# Altium schematic symbol library EL.UIM.T01.SCHLIB: 14 symbols
Pins are listed as number, name and electrical type; pins without a type are passive.

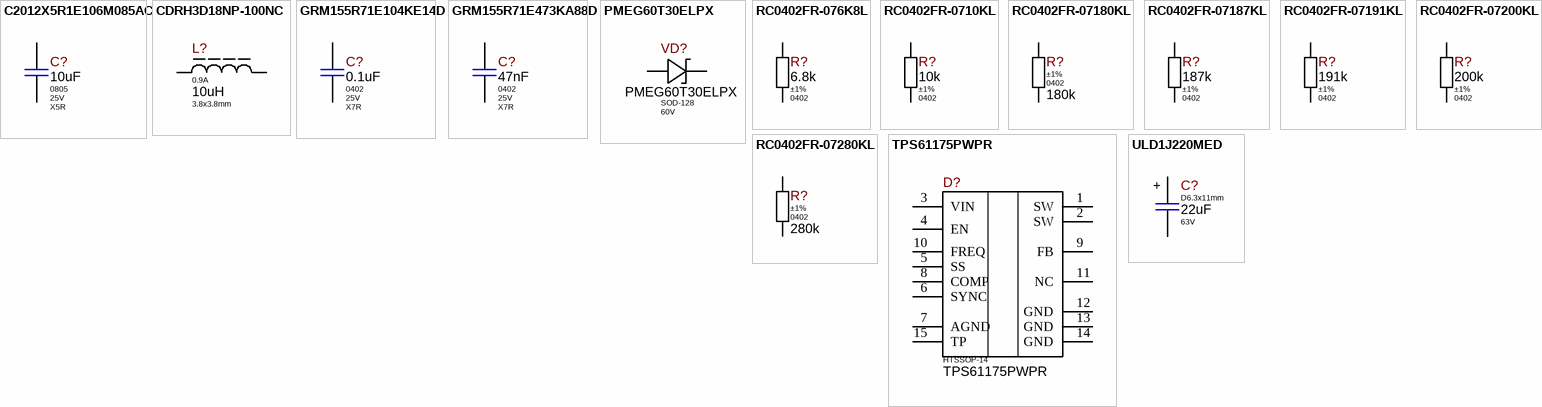
[diagram p0: symbols C2012X5R1E106M085AC to ULD1J220MED]

## C2012X5R1E106M085AC
designator C?, comment Package: 0805  Voltage: 25V  Dielectric Type: X5R  (hidden comment: 10uF)
10uF 25V X5R ±20% 0805 Ceramic Capacitor RoHS; Part Number: C2012X5R1E106M085AC; Manufacturer: TDK Corporation; Standard Lead Time: 12 Weeks; Component Status: Released; Replacement: NONE; Ajax_1С_Lifecycle: Archived; Part Type: Ceramic / X5R / 0805; Component Type: SMD; Temperature Range: -55°C ~ 85°C; Tolerance: ±20%; ComponentLink1URL: https://product.tdk.com/info/en/catalog/datasheets/mlcc_commercial_general_en.pdf; Supplier 1: Digi-Key; Supplier Part Number 1: 445-14388-1-ND; ComponentLink1Description: Datasheet; Price: 0.185; Value: 10uF
footprint CAP-0805(2012)X85T10
pins: 1, 2

## CDRH3D18NP-100NC
designator L?, comment Current: 0.9A  Package: 3.8x3.8mm  (hidden comment: 10uH)
10uH Shielded Power Inductor 900mA 205mOhm Max Nonstandard; Part Number: CDRH3D18NP-100NC; Manufacturer: Sumida; Tolerance: ±30%; Component Status: Released; Standard Lead Time: 28 Weeks; Replacement: NONE; Value: 10uH; Part Type: Power / Ferrite Core; Saturation Current: 0.9A; Component Type: SMD; Temperature Range: -40°C ~ 105°C; ComponentLink1URL: http://products.sumida.com/products/pdf/CDRH3D18.pdf; Supplier 1: Digi-Key; Supplier Part Number 1: 308-1954-6-ND; Price: 0.19; ComponentLink1Description: Datasheet
footprint CDRH3D18
footprint CDRH3D18X
pins: 1, 2

## GRM155R71E104KE14D
designator C?, comment Package: 0402  Voltage: 25V  Dielectric Type: X7R  (hidden comment: 0.1uF)
100nF 25V X7R ±10% 0402 Ceramic Capacitor RoHS; Part Number: GRM155R71E104KE14D; Manufacturer: Murata Electronics; Standard Lead Time: 15 Weeks; Component Status: Released; Replacement: NONE; Ajax_1С_Lifecycle: Archived; Value: 0.1uF; Part Type: Ceramic / X7R / 0402; Component Type: SMD; Temperature Range: -55°C ~ 125°C; Tolerance: ±10%; ComponentLink1URL: https://search.murata.co.jp/Ceramy/image/img/A01X/G101/ENG/GRM155R71E104KE14-01.pdf; Supplier 1: Digi-Key; Supplier Part Number 1: 490-10698-1-ND; Price: 0.006; ComponentLink1Description: Datasheet
footprint C_CERAMIC_0402_MED
footprint C_CERAMIC_0402_HI
pins: 1, 2

## GRM155R71E473KA88D
designator C?, comment Package: 0402  Voltage: 25V  Dielectric Type: X7R  (hidden comment: 47nF)
47nF 25V X7R ±10% 0402 Ceramic Capacitor RoHS; Part Number: GRM155R71E473KA88D; Manufacturer: Murata Electronics; Standard Lead Time: 15 Weeks; Replacement: NONE; Component Status: Released; Value: 47nF; Part Type: Ceramic / X7R / 0402; Component Type: SMD; Temperature Range: -55°C ~ 125°C; Tolerance: ±10%; ComponentLink1URL: https://search.murata.co.jp/Ceramy/image/img/A01X/G101/ENG/GRM155R71E473KA88-01.pdf; Supplier 1: Digi-Key; Supplier Part Number 1: 490-3254-2-ND; ComponentLink1Description: Datasheet; Price: 0.00133
footprint C_CERAMIC_0402_MED
footprint C_CERAMIC_0402_HI
pins: 1, 2

## PMEG60T30ELPX
designator VD?  Package: SOD-128  Voltage: 60V  (hidden comment: PMEG60T30ELPX)
Diode Schottky 60V 3A, 550mV @ 3A, 16ns Recovery Time, SOD-128; Manufacturer: Nexperia USA; Marking: E2; Component Status: Released; Standard Lead Time: 20 Weeks; Replacement: NONE; Part Number: PMEG60T30ELPX; Part Type: Schottky; Component Type: SMD; Current: 3A; Vf: 550mV @ 3A; Temperature Range: -55°C ~ 175°C; ComponentLink1URL: https://assets.nexperia.com/documents/data-sheet/PMEG60T30ELP.pdf; Supplier 1: Digi-Key; Supplier Part Number 1: 1727-7809-2-ND; Price: NONE; ComponentLink1Description: Datasheet
footprint SOD-128
pins: AN, CA

## RC0402FR-076K8L
designator R?, comment Tolerance: ±1%  Package: 0402  (hidden comment: 6.8k)
6.8k kOhms ±1%, 1/16W 0402 Thick Film Resistor; Part Number: RC0402FR-076K8L; Manufacturer: Yageo; Power Rating: 0.062W; Voltage: 50V; Temperature Stability: ±100ppm/°C; Replacement: NONE; Component Status: Released; Value: 6.8k; Component Type: SMD; Part Type: Thick Film; Temperature Range: -55°C ~ 155°C; ComponentLink1URL: https://eu.mouser.com/datasheet/2/447/PYu_RC_Group_51_RoHS_L_11-1984063.pdf; ComponentLink1Description: Datasheet; Supplier 1: Digi-Key; Supplier Part Number 1: 311-6.80KLRTR-ND; Price: 0.00078254
footprint R_ANY_CHIP_0402_MED
footprint R_ANY_CHIP_0402_HI
pins: 1, 2

## RC0402FR-0710KL
designator R?, comment Tolerance: ±1%  Package: 0402  (hidden comment: 10k)
10 kOhms ±1% 1/16W 0402 Thick Film Resistor; Part Number: RC0402FR-0710KL; Manufacturer: Yageo; Power Rating: 0.062W; Voltage: 50V; Temperature Stability: ±100ppm/°C; Replacement: NONE; Component Status: Released; Value: 10k; Component Type: SMD; Part Type: Thick Film; Temperature Range: -55°C ~ 155°C; ComponentLink1URL: https://eu.mouser.com/datasheet/2/447/PYu_RC_Group_51_RoHS_L_10-1664068.pdf; ComponentLink1Description: Datasheet; Supplier 1: Digi-Key; Supplier Part Number 1: 311-10.0KLRTR-ND; Price: 0.00065
footprint R_ANY_CHIP_0402_MED
footprint R_ANY_CHIP_0402_HI
pins: 1, 2

## RC0402FR-07180KL
designator R?, comment Tolerance: ±1%  Package: 0402  (hidden comment: 180k)
180 kOhms ±1% 1/16W 0402 Thick Film Resistor; Part Number: RC0402FR-07180KL; Manufacturer: Yageo; Power Rating: 0.062W; Voltage: 50V; Component Status: Released; Temperature Stability: ±100ppm/°C; Replacement: NONE; Value: 180k; Component Type: SMD; Part Type: Thick Film; Temperature Range: -55°C ~ 155°C; ComponentLink1URL: https://eu.mouser.com/datasheet/2/447/PYu_RC_Group_51_RoHS_L_11-1984063.pdf; Price: 0.00065; ComponentLink1Description: Datasheet
footprint R_ANY_CHIP_0402_MED
footprint R_ANY_CHIP_0402_HI
pins: 1, 2

## RC0402FR-07187KL
designator R?, comment Tolerance: ±1%  Package: 0402  (hidden comment: 187k)
187 kOhms ±1% 1/16W 0402 Thick Film Resistor; Part Number: RC0402FR-07187KL; Manufacturer: Yageo; Power Rating: 0.062W; Voltage: 50V; Component Status: Released; Temperature Stability: ±100ppm/°C; Replacement: NONE; Value: 187k; Component Type: SMD; Part Type: Thick Film; Temperature Range: -55°C ~ 155°C; ComponentLink1URL: https://eu.mouser.com/datasheet/2/447/YAGEO_PYu_RC_Group_51_RoHS_L_12-3313492.pdf; Supplier 1: Digi-Key; Supplier Part Number 1: 311-187KLRTR-ND; Price: NONE; ComponentLink1Description: Datasheet
footprint R_ANY_CHIP_0402_MED
footprint R_ANY_CHIP_0402_HI
pins: 1, 2

## RC0402FR-07191KL
designator R?, comment Tolerance: ±1%  Package: 0402  (hidden comment: 191k)
191 kOhms ±1% 1/16W 0402 Thick Film Resistor; Part Number: RC0402FR-07191KL; Manufacturer: Yageo; Power Rating: 0.062W; Voltage: 50V; Component Status: Released; Temperature Stability: ±100ppm/°C; Replacement: NONE; Value: 191k; Component Type: SMD; Part Type: Thick Film; Temperature Range: -55°C ~ 155°C; ComponentLink1URL: https://eu.mouser.com/datasheet/2/447/YAGEO_PYu_RC_Group_51_RoHS_L_12-3313492.pdf; Supplier 1: Mouser; Supplier Part Number 1: 603-RC0402FR-07191KL; Price: NONE; ComponentLink1Description: Datasheet
footprint R_ANY_CHIP_0402_MED
footprint R_ANY_CHIP_0402_HI
pins: 1, 2

## RC0402FR-07200KL
designator R?, comment Tolerance: ±1%  Package: 0402  (hidden comment: 200k)
200 kOhms ±1% 1/16W 0402 Thick Film Resistor; Part Number: RC0402FR-07200KL; Manufacturer: Yageo; Power Rating: 0.062W; Voltage: 50V; Component Status: Released; Temperature Stability: ±100ppm/°C; Replacement: NONE; Value: 200k; Component Type: SMD; Part Type: Thick Film; Temperature Range: -55°C ~ 155°C; ComponentLink1URL: https://eu.mouser.com/datasheet/2/447/PYu_RC_Group_51_RoHS_L_10-1664068.pdf; Price: 0.00065; ComponentLink1Description: Datasheet
footprint R_ANY_CHIP_0402_MED
footprint R_ANY_CHIP_0402_HI
pins: 1, 2

## RC0402FR-07280KL
designator R?, comment Tolerance: ±1%  Package: 0402  (hidden comment: 280k)
280 kOhms ±1% 1/16W 0402 Thick Film Resistor; Part Number: RC0402FR-07280KL; Manufacturer: Yageo; Power Rating: 0.062W; Voltage: 50V; Component Status: Released; Temperature Stability: ±100ppm/°C; Replacement: NONE; GUID_1C: d859b88b-0e4c-11e7-82d8-d8cb8a9acc66; Value: 280k; Component Type: SMD; Part Type: Thick Film; Temperature Range: -55°C ~ 155°C; ComponentLink1URL: https://eu.mouser.com/datasheet/2/447/PYu_RC_Group_51_RoHS_L_10-1664068.pdf; Price: 0.00078055; ComponentLink1Description: Datasheet
footprint R_ANY_CHIP_0402_MED
footprint R_ANY_CHIP_0402_HI
pins: 1, 2

## TPS61175PWPR
designator D?  Package: HTSSOP-14  (hidden comment: TPS61175PWPR)
3A High-Voltage Boost, Flyback, SEPIC Converter With Soft Start and Programmable Switching Frequency, HTSSOP-14; Manufacturer: Texas Instruments; Standard Lead Time: 35 Weeks; Replacement: NONE; Component Status: Released; Part Type: Power / DC-DC; Component Type: SMD; Temperature Range: -40°C ~ 85°C; ComponentLink1URL: https://www.ti.com/lit/ds/symlink/tps61175.pdf; Supplier 1: Digi-Key; Supplier Part Number 1: 296-24013-2-ND; ComponentLink1Description: Datasheet; Price: 2.23; Part Number: TPS61175PWPR
footprint TSSOP-14_POWER
pins: 1 SW, 2 SW, 3 VIN, 4 EN, 5 SS, 6 SYNC, 7 AGND, 8 COMP, 9 FB, 10 FREQ, 11 NC, 12 GND, 13 GND, 14 GND, 15 TP

## ULD1J220MED
designator C?, comment value 22uF  Package: D6.3x11mm  Voltage: 63V  (hidden comment: 22uFx63V)
22uF 63V ±20% D6.3x11mm Aluminum Electrolytic Capacitor, Ripple Current 170mA; Part Number: ULD1J220MED; Manufacturer: Nichicon; Standard Lead Time: 80 Weeks; Component Status: Released; Dielectric Type: NONE; Part Type: Aluminum; Component Type: PTH; Temperature Range: -25°C ~ 105°C; Tolerance: ±20%; ComponentLink1URL: https://eu.mouser.com/datasheet/2/293/e_uld-1513276.pdf; Supplier 1: Mouser; Supplier Part Number 1: 647-ULD1J220MED; Replacement: NONE; Price: 0.14; ComponentLink1Description: Datasheet
footprint CAP-AE-PTH-63D05x110H15
pins: 1, 2
text: +